# Altium schematic symbol library SCHLIB_V_and_curr.SchLib: 15 symbols
Pins are listed as number, name and electrical type; pins without a type are passive.

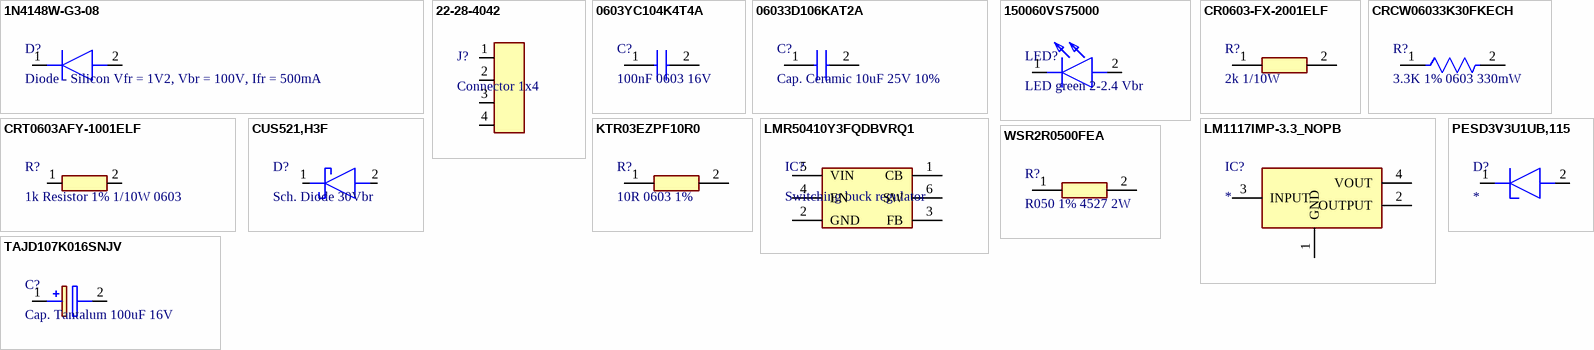
[diagram p0: symbols 1N4148W-G3-08 to WSR2R0500FEA]

## 1N4148W-G3-08
designator D?, comment Diode - Silicon Vfr = 1V2, Vbr = 100V, Ifr = 500mA
Manufacturer_Name: Vishay; Manufacturer_Part_Number: 1N4148W-G3-08; Description: Diodes - General Purpose; Datasheet Link: https://componentsearchengine.com/Datasheets/1/1N4148W-G3-08.pdf; Height: 1.35mm; Mouser Part Number: 78-1N4148W-G3-08; Mouser Price/Stock: https://www.mouser.co.uk/ProductDetail/Vishay-Semiconductors/1N4148W-G3-08?qs=uS%252BVSIFnvp46StDBB15x4Q%3D%3D; Arrow Part Number: 1N4148W-G3-08; Arrow Price/Stock: https://www.arrow.com/en/products/1n4148w-g3-08/vishay
footprint SOD3716X135N
pins: 1 K, 2 A

## 22-28-4042
designator J?, comment Connector 1x4
Connector 1x4 / 2.54mm pitch / Through Hole straight; Manufacturer_Name: Molex; Description: Headers & Wire Housings 2.54MM HDR VT 4P 295/120 SN; Datasheet Link: https://www.molex.com/content/dam/molex/molex-dot-com/products/automated/en-us/salesdrawingpdf/423/42375/022284042_sd.pdf?inline; Height: 10.03mm; Manufacturer_Part_Number: 22-28-4042; Mouser Part Number: 538-22-28-4042; Mouser Price/Stock: https://www.mouser.co.uk/ProductDetail/Molex/22-28-4042?qs=GAPJcf4kvdu6DqYOOlzdaQ%3D%3D
footprint HDRV4W66P0X254_1X4_1016X249X1003P
pins: 1, 2, 3, 4

## 0603YC104K4T4A
designator C?, comment 100nF 0603 16V
Manufacturer_Name: Kyocera AVX; Manufacturer_Part_Number: 0603YC104K4T4A; Datasheet Link: https://componentsearchengine.com/Datasheets/1/06031A100FAT2A.pdf; Height: 0.9mm; Mouser Part Number: 581-0603YC104K4T4A; Mouser Price/Stock: https://www.mouser.co.uk/ProductDetail/KYOCERA-AVX/0603YC104K4T4A?qs=Cej1j9ztgjEkPqVJkA4Bng%3D%3D; Arrow Part Number: 0603YC104K4T4A; Arrow Price/Stock: https://www.arrow.com/en/products/0603yc104k4t4a/avx
footprint CAPC1608X90N
pins: 1, 2

## 06033D106KAT2A
designator C?, comment Cap. Ceramic 10uF 25V 10%
Manufacturer_Name: Kyocera AVX; Manufacturer_Part_Number: 06033D106KAT2A; Description: AVX capacitor 3; Datasheet Link: https://componentsearchengine.com/Datasheets/1/06031A100FAT2A.pdf; Height: 0.9mm; Mouser Part Number: 581-06033D106KAT2A; Mouser Price/Stock: https://www.mouser.co.uk/ProductDetail/KYOCERA-AVX/06033D106KAT2A?qs=iLbezkQI%252BsjjhfqLL0ayMQ%3D%3D; Arrow Part Number: 06033D106KAT2A; Arrow Price/Stock: https://www.arrow.com/en/products/06033d106kat2a/avx?region=nac
footprint CAPC1608X90N
pins: 1, 2

## 150060VS75000
designator LED?, comment LED green 2-2.4 Vbr
Manufacturer_Name: Wurth Elektronik; Manufacturer_Part_Number: 150060VS75000; Description: 2.4 V Green LED 1608 (0603) SMD; Datasheet Link: https://componentsearchengine.com/Datasheets/2/150060VS75000.pdf; Height: 0.8mm; Mouser Part Number: 710-150060VS75000; Mouser Price/Stock: https://www.mouser.co.uk/ProductDetail/Wurth-Elektronik/150060VS75000?qs=LlUlMxKIyB1Q1Bi5mQ%2FKLw%3D%3D
footprint LEDC1608X80N
pins: 1 K, 2 A

## CR0603-FX-2001ELF
designator R?, comment 2k 1/10W
2k resistor 1% 1/10W 0603; Manufacturer_Name: Bourns; Manufacturer_Part_Number: CR0603-FX-2001ELF; Description: SMD 0603 thick film resistor 2K 1% Bourns CR0603-FX Series Thick Film Surface Mount Fixed Resistor 0603 Case 2k +/-1% 0.1W +/-100ppm/C; Datasheet Link: https://www.bourns.com/pdfs/chpreztr.pdf; Height: 0.55mm; Mouser Part Number: 652-CR0603-FX-2001LF; Mouser Price/Stock: https://www.mouser.co.uk/ProductDetail/Bourns/CR0603-FX-2001ELF?qs=zx2075yZkZINSjnn4ZdNIQ%3D%3D; Arrow Part Number: CR0603-FX-2001ELF; Arrow Price/Stock: https://www.arrow.com/en/products/cr0603-fx-2001elf/bourns?region=nac
footprint RESC1608X55N
pins: 1, 2

## CRCW06033K30FKECH
designator R?, comment 3.3K 1% 0603 330mW
3K3 1% 0603 330mW
footprint CRCW06033K30FKECH (resistor 3.3k 0604 1% 330mW)
pins: 1, 2

## CRT0603AFY-1001ELF
designator R?, comment 1k Resistor 1% 1/10W 0603
Manufacturer_Name: Bourns; Manufacturer_Part_Number: CRT0603AFY-1001ELF; Description: ResThinFilm 0603 1kR 1% 100mW TC25; Datasheet Link: https://www.bourns.com/docs/Product-Datasheets/CRT-A.pdf; Height: 0.55mm
footprint RESC1608X55N
pins: 1, 2

## CUS521,H3F
designator D?, comment Sch. Diode 30Vbr
Manufacturer_Name: Toshiba; Manufacturer_Part_Number: CUS521,H3F; Description: Schottky Diodes & Rectifiers Small-Signal Schotky 0.2A Io 30V Vr; Datasheet Link: http://toshiba.semicon-storage.com/info/docget.jsp?did=8859&prodName=CUS521; Height: 1mm; Mouser Part Number: 757-CUS521H3F; Mouser Price/Stock: https://www.mouser.co.uk/ProductDetail/Toshiba/CUS521H3F?qs=OLJpxlzHOSRzvzvrwLzYuQ%3D%3D; Arrow Part Number: CUS521,H3F; Arrow Price/Stock: https://www.arrow.com/en/products/cus521h3f/toshiba?region=nac
footprint 1SS357TPH3F
pins: 1 K, 2 A

## KTR03EZPF10R0
designator R?, comment 10R 0603 1%
Manufacturer_Name: ROHM Semiconductor; Manufacturer_Part_Number: KTR03EZPF10R0; Datasheet Link: http://rohmfs.rohm.com/en/products/databook/datasheet/passive/resistor/chip_resistor/ktr.pdf; Height: 0.55mm; Mouser Part Number: 755-KTR03EZPF10R0; Mouser Price/Stock: https://www.mouser.co.uk/ProductDetail/ROHM-Semiconductor/KTR03EZPF10R0?qs=Z4wLSx0Y7o6aTc4EM6rn5w%3D%3D
footprint RESC1608X55N
pins: 1, 2

## LM1117IMP-3.3_NOPB
designator IC?
3V3 Linear regulator; Manufacturer_Name: Texas Instruments; Manufacturer_Part_Number: LM1117IMP-3.3/NOPB; Datasheet Link: https://www.ti.com/lit/ds/symlink/lm1117.pdf?ts=1607578196475&ref_url=https%253A%252F%252Fwww.google.com%252F; Height: 1.8mm; Mouser Part Number: 926-LM1117IMP3.3NOPB; Mouser Price/Stock: https://www.mouser.co.uk/ProductDetail/Texas-Instruments/LM1117IMP-3.3-NOPB?qs=X1J7HmVL2ZFbpN1TgOsjYQ%3D%3D; Arrow Part Number: LM1117IMP-3.3/NOPB; Arrow Price/Stock: https://www.arrow.com/en/products/lm1117imp-3.3nopb/texas-instruments?utm_currency=USD&region=nac; Supplier 1: Mouser; Supplier Part Number 1: 926-LM1117IMP3.3NOPB
footprint SOT230P700X180-4N
pins: 1 GND, 2 OUTPUT, 3 INPUT, 4 VOUT

## LMR50410Y3FQDBVRQ1
designator IC?, comment Switching buck regulator
Manufacturer_Name: Texas Instruments; Manufacturer_Part_Number: LMR50410Y3FQDBVRQ1; Datasheet Link: https://www.ti.com/lit/ds/symlink/lmr50410-q1.pdf?ts=1611309677669; Height: 1.45mm; Mouser Part Number: 595-R50410Y3FQDBVRQ1; Mouser Price/Stock: https://www.mouser.co.uk/ProductDetail/Texas-Instruments/LMR50410Y3FQDBVRQ1?qs=81r%252BiQLm7BTaIXwCgdOuiA%3D%3D; Arrow Part Number: LMR50410Y3FQDBVRQ1; Arrow Price/Stock: https://www.arrow.com/en/products/lmr50410y3fqdbvrq1/texas-instruments?utm_currency=USD&region=europe
footprint SOT95P280X145-6N
pins: 1 CB, 2 GND, 3 FB, 4 EN, 5 VIN, 6 SW

## PESD3V3U1UB,115
designator D?
TVS diode 3V3; Manufacturer_Name: Nexperia; Manufacturer_Part_Number: PESD3V3U1UB,115; Description: Nexperia PESD3V3U1UB,115; Datasheet Link: https://assets.nexperia.com/documents/data-sheet/PESD3V3U1UB.pdf; Height: 0.65mm; Mouser Part Number: 771-PESD3V3U1UB-T/R; Mouser Price/Stock: https://www.mouser.co.uk/ProductDetail/Nexperia/PESD3V3U1UB115?qs=LOCUfHb8d9uLhBP9O5uXGg%3D%3D; Arrow Part Number: PESD3V3U1UB,115; Arrow Price/Stock: https://www.arrow.com/en/products/pesd3v3u1ub115/nexperia?region=nac
footprint PESD3V3U1UB115
pins: 1 K, 2 A

## TAJD107K016SNJV
designator C?, comment Cap. Tantalum 100uF 16V
Manufacturer_Name: Kyocera AVX; Manufacturer_Part_Number: TAJD107K016SNJV; Description: Tantalum Capacitors - Solid SMD 16volts 100uF 10%; Datasheet Link: http://datasheets.avx.com/TAJ.pdf; Height: 3.1mm; Mouser Part Number: 581-TAJD107K016SNJV; Mouser Price/Stock: https://www.mouser.co.uk/ProductDetail/AVX/TAJD107K016SNJV?qs=QtI0yD1FyOOTkhr%252BZ7mOPQ%3D%3D; Arrow Part Number: TAJD107K016SNJV; Arrow Price/Stock: https://www.arrow.com/en/products/tajd107k016snjv/avx
footprint CAPPM7344X310N
pins: 1 +, 2 -

## WSR2R0500FEA
designator R?, comment R050 1% 4527 2W
Manufacturer_Name: Vishay; Manufacturer_Part_Number: WSR2R0500FEA; Datasheet Link: http://www.mouser.com/ds/2/427/wsr-239755.pdf; Height: 2.537mm; Mouser Part Number: 71-WSR2R0500FEA; Mouser Price/Stock: https://www.mouser.com/Search/Refine.aspx?Keyword=71-WSR2R0500FEA; Arrow Part Number: WSR2R0500FEA; Arrow Price/Stock: https://www.arrow.com/en/products/wsr2r0500fea/vishay
footprint WSR2R0500FEA
pins: 1, 2